# Altium footprint library sm_cap.PcbLib: 36 footprints (part 3 of 3)
Each footprint in its own frame and in the unit in brackets; x right, y up, seen from the top. Pads: shape width x height; smd on the part's side, far side on the other; paste and mask are expansions set on the pad; w line width, h text height; cw(c..) or ccw(c..) is an arc to the next point about the centre after c.
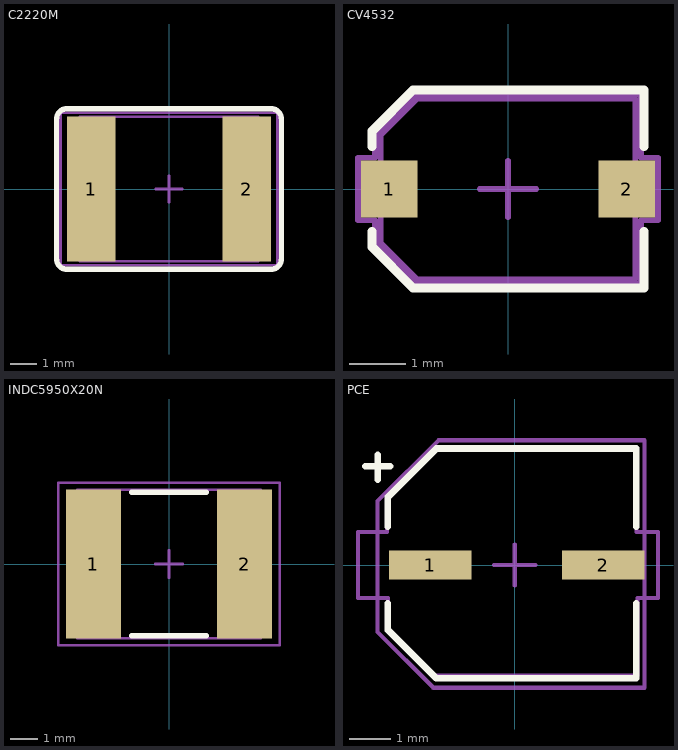
[diagram p2: the footprints below, top view; thin cyan lines are the x and y axes]

## C2220M [mm] "Chip Capacitor, 2-Leads, Body 3.2x2.5mm, IPC Medium Density"
height 1.6
pads (2):
  rect 1.8x5.4 smd: 1(-2.9,0) 2(2.9,0)
Top Overlay:
  lines w0.2: -4.2,-2.6 ccw(c-3.8,-2.6) -3.8,-3 3.8,-3 ccw(c3.8,-2.6) 4.2,-2.6 4.2,2.6 ccw(c3.8,2.6) 3.8,3 -3.8,3 ccw(c-3.8,2.6) -4.2,2.6 -4.2,-2.6
Mechanical 13:
  lines w0.1: -0.5,0 0.5,0 ; 0,-0.5 0,0.5 ; -3.325,-2.7 -3.325,2.7 3.325,2.7 3.325,-2.7 -3.325,-2.7
Mechanical 15:
  lines w0.1: -4.05,-2.85 -4.05,2.85 4.05,2.85 4.05,-2.85 -4.05,-2.85
  text ".Designator" at -1.6,-0.125 h0.5
3D body "C2220X105K2RACTU.step": height 1.67, standoff 0.02, extent -3.325,-2.7 3.325,2.7

## CV4532 [mm] "SMD Variable Capacitor"
height 1.6
pads (2):
  rect 1x1 smd: 1(-2.1,0) 2(2.1,0)
Top Overlay:
  lines w0.16: -2.4,-0.75 -2.4,-1.025 -1.675,-1.75 2.4,-1.75 2.4,-0.75 ; -2.4,0.75 -2.4,1.025 -1.675,1.75 2.4,1.75 2.4,0.75
Mechanical 13:
  lines w0.1: -0.5,0 0.5,0 ; 0,-0.5 0,0.5 ; -2.25,-0.95 -1.6,-1.6 2.25,-1.6 2.25,1.6 -1.6,1.6 -2.25,0.95 -2.25,-0.95
Mechanical 15:
  lines w0.1: -2.65,-0.55 -2.35,-0.55 -2.35,-0.975 -1.65,-1.675 2.35,-1.675 2.35,-1.15 2.35,-0.55 2.65,-0.55 2.65,0.55 2.35,0.55 2.35,1.675 -1.625,1.675 -2.35,0.95 -2.35,0.55 -2.65,0.55 -2.65,0.175 -2.65,-0.2 -2.65,-0.55
  text ".Designator" at -1.6,-0.125 h0.5
3D body: height 1.6, standoff 0.8, extent -1.195,-1.198 1.195,1.198
3D body: height 0.4, standoff 0, extent -2.25,-0.4 -1.65,0.4
3D body: height 0.8, standoff 0, extent -2.25,-1.6 2.25,1.6
3D body: height 0.4, standoff 0, extent 1.55,-0.4 2.15,0.4

## INDC5950X20N [mm] "Chip Inductor, 2-Leads, Body 5.9x5.0mm, IPC Medium Density"
height 2
pads (2):
  rect 2x5.4 smd: 1(-2.75,0) 2(2.75,0)
Top Overlay:
  lines w0.2: -1.35,-2.6 1.35,-2.6 ; -1.35,2.6 1.35,2.6
Mechanical 13:
  lines w0.1: -3.325,-2.7 3.325,-2.7 3.325,2.7 -3.325,2.7 -3.325,-2.7
Mechanical 15:
  lines w0.1: -0.5,0 0.5,0 ; 0,-0.5 0,0.5 ; -4.025,-2.95 4.025,-2.95 4.025,2.95 -4.025,2.95 -4.025,-2.95
3D body: height 2, standoff 0, extent -3.325,-2.7 3.325,2.7

## PCE [mm] "SMD Aluminum Electrolytic Capacitor 5.3mm X 5.3mm"
height 5.4
pads (2):
  rect 2x0.7 smd: 1(-2.05,0) 2(2.15,0)
Top Overlay:
  lines w0.16: -3.625,2.4 -3.025,2.4 ; -3.325,2.075 -3.325,2.675 ; -3.075,-0.925 -3.075,-1.575 -1.9,-2.75 2.95,-2.75 2.95,-0.925 ; -3.075,0.925 -3.075,1.65 -1.9,2.825 2.95,2.825 2.95,0.925
Mechanical 13:
  lines w0.1: -0.5,0 0.5,0 ; 0,-0.5 0,0.5 ; -3.325,-1.625 -1.975,-2.975 3.15,-2.975 3.15,3.025 -1.85,3.025 -3.325,1.55 -3.325,-1.625
Mechanical 15:
  lines w0.1: -3.8,-0.8 -3.075,-0.8 -3.075,-1.55 -1.95,-2.675 2.975,-2.675 2.975,-0.8 3.475,-0.8 3.475,0.8 2.95,0.8 2.95,2.825 -1.9,2.825 -3.1,1.625 -3.1,0.8 -3.8,0.8 -3.8,-0.8
  text ".Designator" at -1.6,-0.125 h0.5
3D body "User Library-ALU-C.STEP": height 5.41, standoff 0, extent -2.95,-2.65 2.95,2.65
3D body: height 0.4, standoff 0, extent -2.25,-0.4 -1.65,0.4
3D body: height 0.4, standoff 0, extent 1.55,-0.4 2.15,0.4